# Altium footprint library Resistors.PcbLib: 9 footprints
Each footprint in its own frame and in the unit in brackets; x right, y up, seen from the top. Pads: shape width x height; smd on the part's side, far side on the other; paste and mask are expansions set on the pad; w line width, h text height; cw(c..) or ccw(c..) is an arc to the next point about the centre after c.
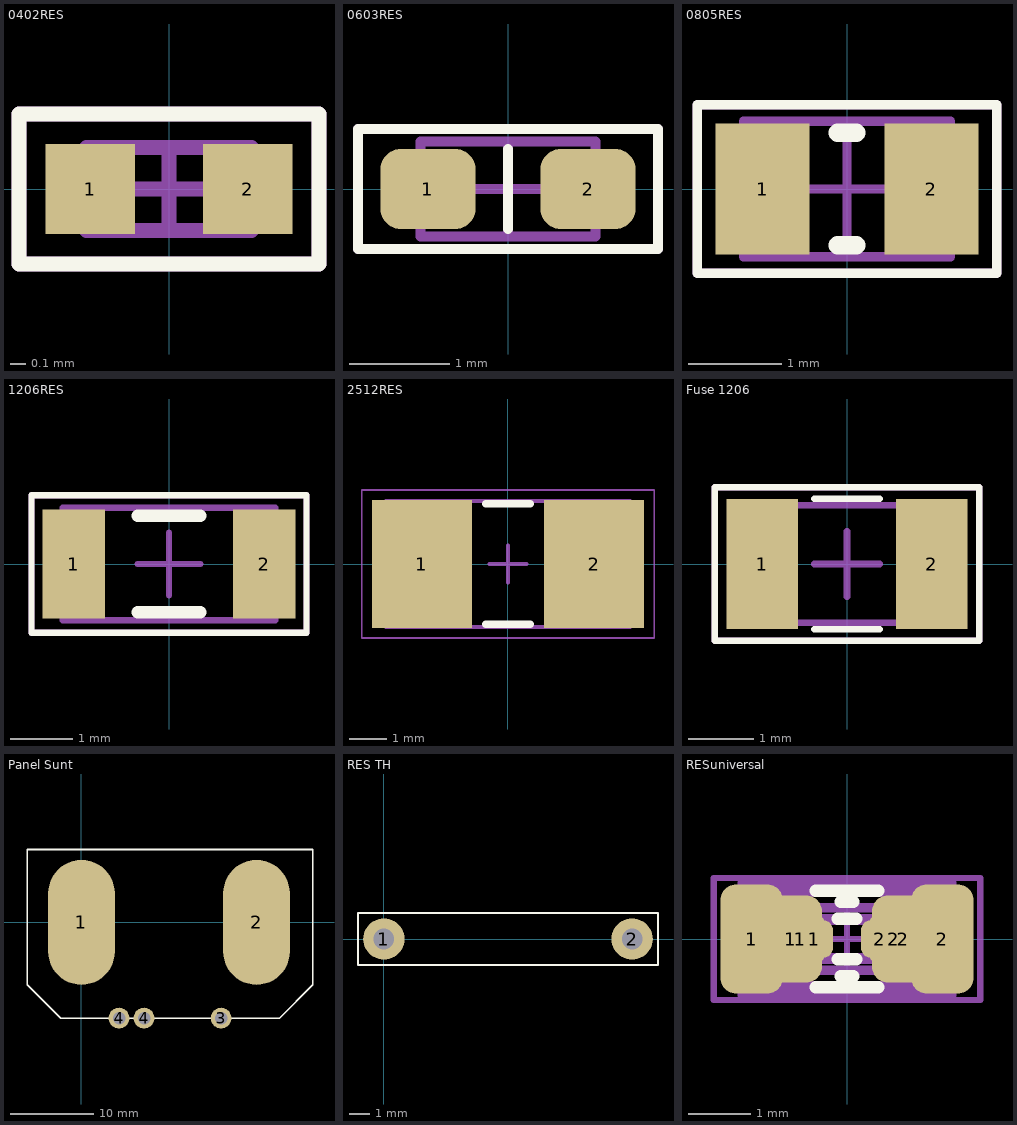
[diagram p0: the footprints below, top view; thin cyan lines are the x and y axes]

## 0402RES [mm] "Chip Resistor 2-Leads, Body 1,1x0,5mm, IPC High Density"
height 0.6
pads (2):
  rect 0.6x0.6 smd: 1(-0.525,0) 2(0.525,0)
Top Overlay:
  lines w0.1: -1,-0.5 -1,0.5 1,0.5 1,-0.5 -1,-0.5
Mechanical 13:
  lines w0.1: -0.55,-0.275 0.55,-0.275 0.55,0.275 -0.55,0.275 -0.55,-0.275
Mechanical 15:
  lines w0.1: -0.275,0 0.275,0 ; 0,-0.275 0,0.275 ; -1,-0.5 1,-0.5 1,0.5 -1,0.5 -1,-0.5
3D body "0402 RES.step": height 0.35, standoff 0, extent -0.5,-0.25 0.5,0.25

## 0603RES [mm] "Chip Resistor 2-Leads, Body 1,7x0,9mm, IPC High Density"
height 0.9
pads (2):
  rrect50% 0.95x0.8 smd: 1(-0.8,0) 2(0.8,0)
Top Overlay:
  lines w0.1: 0,-0.4 0,0.4 ; -1.5,-0.6 1.5,-0.6 1.5,0.6 -1.5,0.6 -1.5,-0.6
Mechanical 13:
  lines w0.1: -0.875,-0.475 0.875,-0.475 0.875,0.475 -0.875,0.475 -0.875,-0.475
Mechanical 15:
  lines w0.1: -0.475,0 0.475,0 ; 0,-0.475 0,0.475 ; -1.5,-0.6 1.5,-0.6 1.5,0.6 -1.5,0.6 -1.5,-0.6
3D body "0603 RES.step": height 0.45, standoff 0, extent -0.775,-0.425 0.775,0.425

## 0805RES [mm] "Chip Resistor 2-Leads, Body 2,1x1,4mm, IPC High Density"
height 1.3
pads (2):
  rect 1x1.4 smd: 1(-0.902,0) 2(0.902,0)
Top Overlay:
  lines w0.1: -1.6,-0.9 1.6,-0.9 1.6,0.9 -1.6,0.9 -1.6,-0.9
  lines w0.2: -0.1,-0.6 0.1,-0.6 ; -0.1,0.6 0.1,0.6
Mechanical 13:
  lines w0.1: -1.105,-0.725 -1.105,0.725 1.105,0.725 1.105,-0.725 -1.105,-0.725
Mechanical 15:
  lines w0.1: -0.5,0 0.5,0 ; 0,-0.5 0,0.5 ; -1.6,-0.9 -1.6,0.9 1.6,0.9 1.6,-0.9 -1.6,-0.9
3D body "0805 RES.step": height 0.45, standoff 0, extent -1,-0.625 1,0.625

## 1206RES [mm] "Chip Resistor 2-Leads, Body 3,3x1,7mm, IPC High Density"
height 1.5
pads (2):
  rect 1x1.75 smd: 1(-1.527,0) 2(1.527,0)
Top Overlay:
  lines w0.1: -2.2,-1.1 2.2,-1.1 2.2,1.1 -2.2,1.1 -2.2,-1.1
  lines w0.2: -0.5,-0.775 0.5,-0.775 ; -0.5,0.775 0.5,0.775
Mechanical 13:
  lines w0.1: -1.7,-0.9 -1.7,0.9 1.7,0.9 1.7,-0.9 -1.7,-0.9
Mechanical 15:
  lines w0.1: -0.5,0 0.5,0 ; 0,-0.5 0,0.5 ; -2.2,-1.1 -2.2,1.1 2.2,1.1 2.2,-1.1 -2.2,-1.1
3D body "1206 RES.step": height 0.55, standoff 0, extent -1.6,-0.8 1.6,0.8

## 2512RES [mm] "Chip Resistor, 2-Leads, Body 6,40x3,20mm, IPC Medium Density"
height 0.9
pads (2):
  rect 2.7x3.45 smd: 1(-2.325,0) 2(2.325,0)
Top Overlay:
  lines w0.2: -0.6,-1.625 0.6,-1.625 ; -0.6,1.625 0.6,1.625
Mechanical 13:
  lines w0.1: -3.3,-1.7 3.3,-1.7 3.3,1.7 -3.3,1.7 -3.3,-1.7
Mechanical 15:
  lines w0.05: -3.95,-2 3.95,-2 3.95,2 -3.95,2 -3.95,-2
  lines w0.1: -0.5,0 0.5,0 ; 0,-0.5 0,0.5
3D body: height 0.9, standoff 0, extent 1.3,-1.7 3.3,1.7
3D body: height 0.9, standoff 0, extent -3.3,-1.7 -1.3,1.7
3D body: height 0.9, standoff 0, extent -1.3,-1.7 1.3,1.7

## Fuse 1206 [mm] "polyswitch, tyco nanoSMD, 1206(3216)"
height 1.25
pads (2):
  rect 1.1x2 smd: 1(-1.3,0) 2(1.3,0)
Top Overlay:
  lines w0.1: -0.5,-1 0.5,-1 ; -0.5,1 0.5,1 ; -2.025,-1.175 2.025,-1.175 2.025,1.175 -2.025,1.175 -2.025,-1.175
Mechanical 13:
  lines w0.1: -1.7,-0.9 -1.7,0.9 1.7,0.9 1.7,-0.9 -1.7,-0.9
Mechanical 15:
  lines w0.1: -0.5,0 0.5,0 ; 0,-0.5 0,0.5 ; -2.025,-1.175 2.025,-1.175 2.025,1.175 -2.025,1.175 -2.025,-1.175
3D body: height 1.25, standoff 0, extent -1.651,-0.9 1.651,0.9
3D body: height 1.26, standoff 0, extent -1.7,-0.9 -1.016,0.889
3D body: height 1.26, standoff 0, extent 1.016,-0.9 1.7,0.889

## Panel Sunt [mm]
pads (5):
  oval 8x15 smd: 1(0,0) 2(21,0)
  round 2.5 hole 1.5: 3(16.75,-11.5) 4(4.5,-11.5) 4(7.5,-11.5)
Top Overlay:
  lines w0.2: -6.5,-7.5 -2.5,-11.5 23.75,-11.5 27.75,-7.5 27.75,8.75 -6.5,8.75 -6.5,-7.5

## RES TH [mm]
pads (2):
  round 2 hole 1: 1(0,0) 2(12,0)
Top Overlay:
  lines w0.1: -1.25,-1.25 -1.25,1.25 13.25,1.25 13.25,-1.25 -1.25,-1.25

## RESuniversal [mm] "Chip Resistor 2-Leads, All sizes"
height 1.5
pads (8):
  rrect50% 1x1.75 smd: 1(-1.527,0) 2(1.527,0)
  rrect50% 1x1.4 smd: 1(-0.902,0) 2(0.902,0)
  rrect50% 0.8x0.85 smd: 1(-0.75,0) 2(0.75,0)
  rrect50% 0.6x0.6 smd: 1(-0.525,0) 2(0.525,0)
Top Overlay:
  lines w0.2: -0.5,-0.775 0.5,-0.775 ; -0.5,0.775 0.5,0.775 ; -0.15,-0.325 0.15,-0.325 ; -0.15,0.325 0.15,0.325 ; -0.1,-0.6 0.1,-0.6 ; -0.1,0.6 0.1,0.6
Mechanical 13:
  lines w0.1: -1.7,-0.9 -1.7,0.9 1.7,0.9 1.7,-0.9 -1.7,-0.9 ; -1.105,-0.725 -1.105,0.725 1.105,0.725 1.105,-0.725 -1.105,-0.725 ; -0.875,-0.475 0.875,-0.475 0.875,0.475 -0.875,0.475 -0.875,-0.475 ; -0.55,-0.275 0.55,-0.275 0.55,0.275 -0.55,0.275 -0.55,-0.275
Mechanical 15:
  lines w0.1: -0.475,0 0.475,0 ; -0.275,0 0.275,0 ; 0,-0.475 0,0.475 ; 0,-0.275 0,0.275 ; -2.134,-0.975 -2.134,0.975 2.134,0.975 2.134,-0.975 -2.134,-0.975 ; -1.473,-0.8 -1.473,0.8 1.473,0.8 1.473,-0.8 -1.473,-0.8 ; -1.225,-0.525 1.225,-0.525 1.225,0.525 -1.225,0.525 -1.225,-0.525 ; -0.925,-0.35 0.925,-0.35 0.925,0.35 -0.925,0.35 -0.925,-0.35 ; -0.5,0 0.5,0 -0.5,0 ; 0,-0.5 0,0.5 0,-0.5
3D body "1206 RES.step": height 0.55, standoff 0, extent -1.6,-0.8 1.6,0.8